# Altium footprint library CX2520DB38400D0FZGC1.PcbLib: 1 footprints
Each footprint in its own frame and in the unit in brackets; x right, y up, seen from the top. Pads: shape width x height; smd on the part's side, far side on the other; paste and mask are expansions set on the pad; w line width, h text height; cw(c..) or ccw(c..) is an arc to the next point about the centre after c.
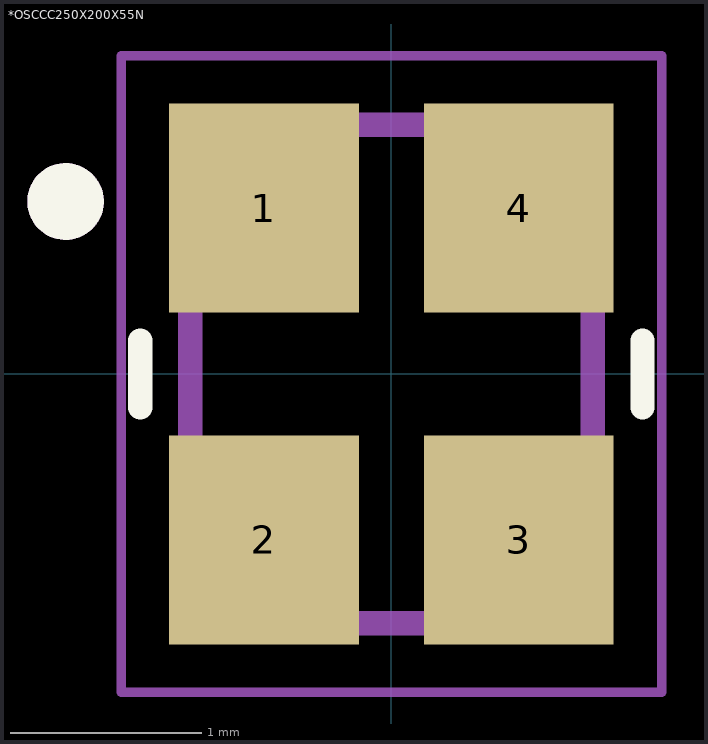
[diagram p0: the footprint, top view; thin cyan lines are the x and y axes]

## *OSCCC250X200X55N [mm]
pads (4):
  rect 0.99x1.09 smd: 1(-0.665,0.865) 2(-0.665,-0.865) 3(0.665,-0.865) 4(0.665,0.865)
Top Overlay:
  circle w0.2: c-1.7,0.9 r0.1
  lines w0.127: -1.31,-0.175 -1.31,0.175 ; 1.31,-0.175 1.31,0.175
Mechanical 13:
  circle w0.2: c-1.7,0.9 r0.1
  circle w0.2: c-1.7,0.9 r0.1
  lines w0.127: -1.05,-1.3 -1.05,1.3 ; -1.05,-1.3 1.05,-1.3 ; -1.05,-1.3 -1.05,1.3 ; -1.05,-1.3 1.05,-1.3 ; -1.05,1.3 1.05,1.3 ; -1.05,1.3 1.05,1.3 ; 1.05,-1.3 1.05,1.3 ; 1.05,-1.3 1.05,1.3
Mechanical 15:
  lines w0.05: -1.41,-1.66 -1.41,1.66 1.41,1.66 1.41,-1.66 -1.41,-1.66